# Altium footprint library 0430450627.PcbLib: 1 footprints
Each footprint in its own frame and in the unit in brackets; x right, y up, seen from the top. Pads: shape width x height; smd on the part's side, far side on the other; paste and mask are expansions set on the pad; w line width, h text height; cw(c..) or ccw(c..) is an arc to the next point about the centre after c.
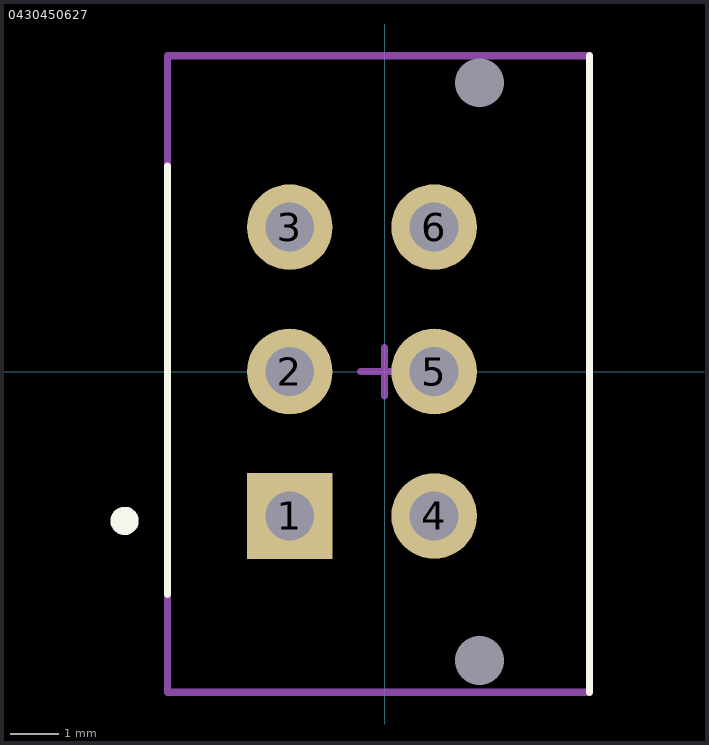
[diagram p0: the footprint, top view; thin cyan lines are the x and y axes]

## 0430450627 [mil]
pads (8):
  rect 70x70 hole 40 mask+2: 1(-77.5,-118)
  round 70 hole 40 mask+2: 2(-77.5,0) 3(-77.5,118) 4(40.5,-118) 5(40.5,0) 6(40.5,118)
  round 0 hole 40 mask+0: MOUNT1(77.5,-236) MOUNT2(77.5,236)
Top Overlay:
  circle w13: c-212.5,-122 r5
  lines w5.91: -177.5,-182 -177.5,168 ; 167.5,-262 167.5,258
Mechanical 13:
  lines w5.91: -177.5,-262 167.5,-262 167.5,258 -177.5,258 -177.5,-262
Mechanical 15:
  lines w5.91: -19.68,0 0,0 ; 0,0 0,-19.68 0,0 ; 0,0 19.68,0 0,0 ; 0,0 0,19.68 0,0
3D body "430450627.stp": height 390.66, standoff -124.7, extent -175.62,-259.86 169.66,257.86